# EAGLE library part ATMEGA128RFA1 (library BOBs)
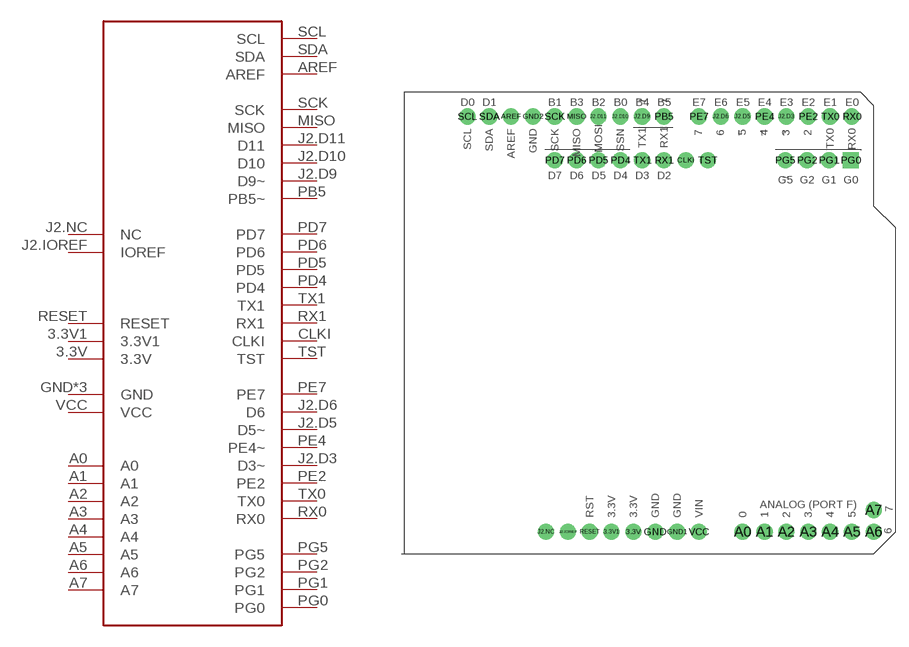
[diagram p0: symbol with the pads of ATMEGA128RFA1; footprint ATMEGA128RFA1]

Designator prefix -

## ATMEGA128RFA1-BOB (DIST: Adafruit; DISTPN: 85)  [ATMEGA128RFA1]
3.3V  3.3V
3.3V1  3.3V1
A0  A0
A1  A1
A2  A2
A3  A3
A4  A4
A5  A5
A6  A6
A7  A7
AREF  AREF
CLKI  CLKI
GND  GND
GND1  GND
GND2  GND
J2.D3  D3~
J2.D5  D5~
J2.D6  D6
J2.D9  D9~
J2.D10  D10
J2.D11  D11
J2.IOREF  IOREF
J2.NC  NC
MISO  MISO
PB5  PB5~
PD4  PD4
PD5  PD5
PD6  PD6
PD7  PD7
PE2  PE2
PE4  PE4~
PE7  PE7
PG0  PG0
PG1  PG1
PG2  PG2
PG5  PG5
RESET  RESET
RX0  RX0
RX1  RX1
SCK  SCK
SCL  SCL
SDA  SDA
TST  TST
TX0  TX0
TX1  TX1
VCC  VCC

## Footprint ATMEGA128RFA1 (pad centres in mm)
drill 1.016 pad 1.88: 3.3V 26.67,2.54; 3.3V1 24.13,2.54; A0 39.37,2.54; A1 41.91,2.54; A2 44.45,2.54; A3 46.99,2.54; A4 49.53,2.54; A5 52.07,2.54; A6 54.61,2.54; A7 54.61,5.08; AREF 12.446,50.8; CLKI 32.766,45.72; GND 29.21,2.54; GND1 31.75,2.54; GND2 14.986,50.8; J2.D3 44.45,50.8; J2.D5 39.37,50.8; J2.D6 36.83,50.8; J2.D9 27.686,50.8; J2.D10 25.146,50.8; J2.D11 22.606,50.8; J2.IOREF 19.05,2.54; J2.NC 16.51,2.54; MISO 20.066,50.8; PB5 30.226,50.8; PD4 25.146,45.72; PD5 22.606,45.72; PD6 20.066,45.72; PD7 17.526,45.72; PE2 46.99,50.8; PE4 41.91,50.8; PE7 34.29,50.8; PG1 49.403,45.72; PG2 46.863,45.72; PG5 44.323,45.72; RESET 21.59,2.54; RX0 52.07,50.8; RX1 30.226,45.72; SCK 17.526,50.8; SCL 7.366,50.8; SDA 9.906,50.8; TST 35.306,45.72; TX0 49.53,50.8; TX1 27.686,45.72; VCC 34.29,2.54
drill 1.016 pad 1.88 square: PG0 51.943,45.72